# Altium footprint library Grayhill.PcbLib: 1 footprints
Each footprint in its own frame and in the unit in brackets; x right, y up, seen from the top. Pads: shape width x height; smd on the part's side, far side on the other; paste and mask are expansions set on the pad; w line width, h text height; cw(c..) or ccw(c..) is an arc to the next point about the centre after c.
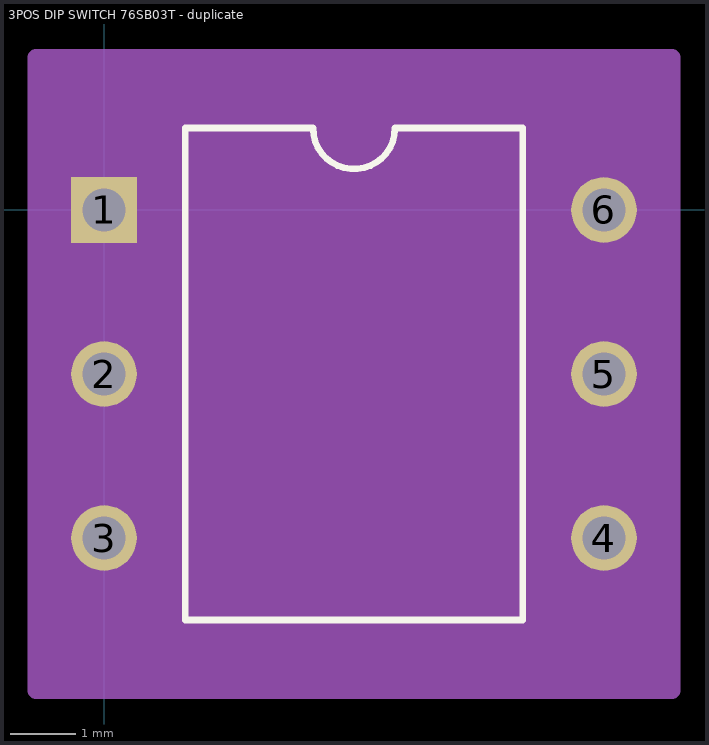
[diagram p0: the footprint, top view; thin cyan lines are the x and y axes]

## 3POS DIP SWITCH 76SB03T - duplicate [mm]
pads (6):
  rect 1x1 hole 0.65: 1(0,0)
  round 1 hole 0.65: 2(0,-2.5) 3(0,-5) 4(7.62,-5) 5(7.62,-2.5) 6(7.62,0)
Top Overlay:
  lines w0.1: 1.235,-6.25 6.385,-6.25 6.385,1.25 4.435,1.25 cw(c3.81,1.25) 3.185,1.25 1.235,1.25 1.235,-6.25
Mechanical 13:
  rectangle: -1.04,-7.325 8.66,2.325
Mechanical 15:
  lines w0.254: -1.04,-7.325 -1.04,2.325 8.66,2.325 8.66,-7.325 -1.04,-7.325